# Altium footprint library smd_resistors.PcbLib: 11 footprints
Each footprint in its own frame and in the unit in brackets; x right, y up, seen from the top. Pads: shape width x height; smd on the part's side, far side on the other; paste and mask are expansions set on the pad; w line width, h text height; cw(c..) or ccw(c..) is an arc to the next point about the centre after c.
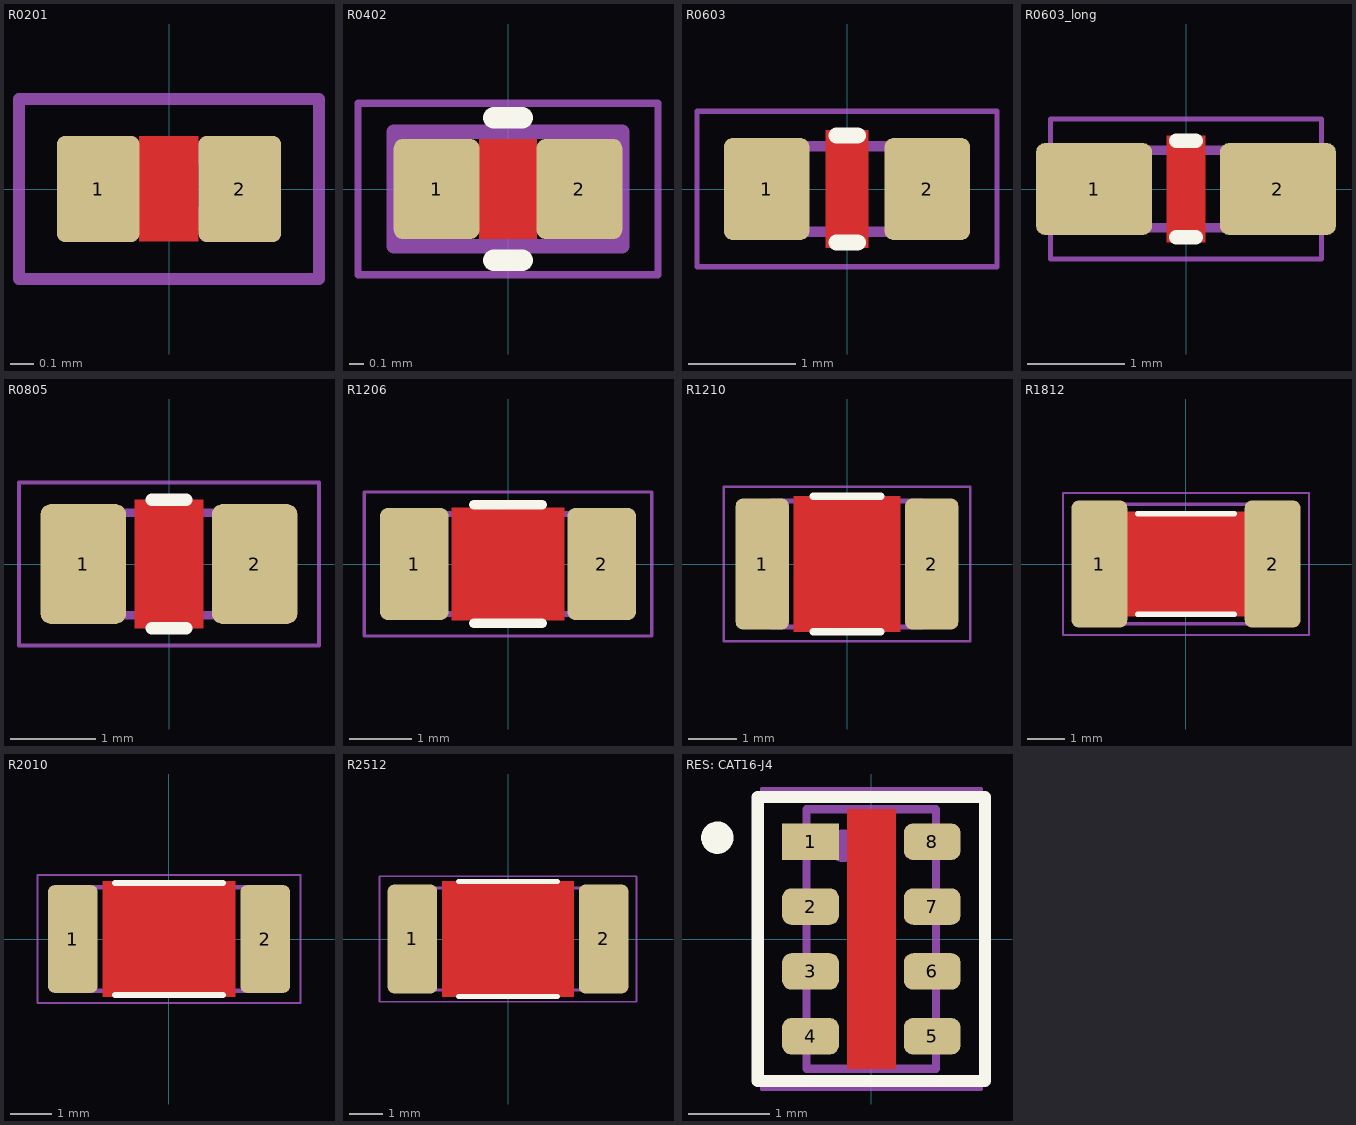
[diagram p0: the footprints below, top view; thin cyan lines are the x and y axes]

## R0201 [mm]
pads (2):
  rrect20% 0.35x0.45 smd: 1(-0.3,0) 2(0.3,0)
Top Layer:
  pour cut-out: 0.125,-0.221 0.125,0.223 -0.127,0.223 -0.127,-0.221
Top Assembly:
  lines w0.1: -0.306,-0.127 0.299,-0.127 0.299,0.154 -0.306,0.154 -0.306,-0.127
  text ".Designator" at -4.998,-0.333 h1
Top Courtyard (Mech15):
  lines w0.05: -0.635,-0.381 -0.635,0.381 0.635,0.381 0.635,-0.381 -0.635,-0.381
3D body "User Library-User Library-RES0201.STEP": height 0.15, standoff 0, extent -0.3,-0.15 0.3,0.15

## R0402 [mm]
pads (2):
  rrect20% 0.6x0.7 smd: 1(-0.5,0) 2(0.5,0)
Top Layer:
  pour cut-out: 0.2,-0.35 0.2,0.35 -0.2,0.35 -0.2,-0.35
Top Overlay:
  lines w0.15: -0.1,-0.5 0.1,-0.5 ; -0.1,0.5 0.1,0.5
Top Assembly:
  lines w0.1: -0.8,-0.4 -0.8,0.4 0.8,0.4 0.8,-0.4 -0.8,-0.4
  text ".Designator" at -4.998,-0.333 h1
Top Courtyard (Mech15):
  lines w0.05: -1.05,-0.6 1.05,-0.6 1.05,0.6 -1.05,0.6 -1.05,-0.6
3D body "Resistor_0402_Text.step": height 0.37, standoff 0.01, extent -0.508,-0.254 0.508,0.254

## R0603 [mm]
pads (2):
  rrect20% 0.8x0.95 smd: 1(-0.75,0) 2(0.75,0)
Top Layer:
  pour cut-out: 0.2,-0.55 0.2,0.55 -0.2,0.55 -0.2,-0.55
Top Overlay:
  lines w0.15: -0.1,-0.5 0.1,-0.5 ; -0.1,0.5 0.1,0.5
Top Assembly:
  lines w0.1: -0.8,-0.4 -0.8,0.4 0.8,0.4 0.8,-0.4 -0.8,-0.4
  text ".Designator" at -4.998,-0.333 h1
Top Courtyard (Mech15):
  lines w0.05: -1.4,-0.725 -1.4,0.725 1.4,0.725 1.4,-0.725 -1.4,-0.725
3D body "chip_0603_r.STEP": height 0.44, standoff -0.02, extent -0.8,-0.4 0.8,0.4

## R0603_long [mm]
pads (2):
  rrect20% 1.2x0.95 smd: 1(-0.95,0) 2(0.95,0)
Top Layer:
  pour cut-out: 0.2,-0.55 0.2,0.55 -0.2,0.55 -0.2,-0.55
Top Overlay:
  lines w0.15: -0.1,-0.5 0.1,-0.5 ; -0.1,0.5 0.1,0.5
Top Assembly:
  lines w0.1: -0.8,-0.4 -0.8,0.4 0.8,0.4 0.8,-0.4 -0.8,-0.4
  text ".Designator" at -4.998,-0.333 h1
Top Courtyard (Mech15):
  lines w0.05: -1.4,-0.725 -1.4,0.725 1.4,0.725 1.4,-0.725 -1.4,-0.725
3D body "chip_0603_r.STEP": height 0.44, standoff -0.02, extent -0.8,-0.4 0.8,0.4

## R0805 [mm]
pads (2):
  rrect25% 1x1.4 smd: 1(-1,0) 2(1,0)
Top Layer:
  pour cut-out: 0.4,-0.75 0.4,0.75 -0.4,0.75 -0.4,-0.75
Top Overlay:
  lines w0.15: -0.2,-0.75 0.2,-0.75 ; -0.2,0.75 0.2,0.75
Top Assembly:
  lines w0.1: -1,-0.6 -1,0.6 1,0.6 1,-0.6 -1,-0.6
  text ".Designator" at -4.998,-0.333 h1
Top Courtyard (Mech15):
  lines w0.05: -1.75,-0.95 -1.75,0.95 1.75,0.95 1.75,-0.95 -1.75,-0.95
3D body "chip_0805_r.STEP": height 0.44, standoff -0.02, extent -1,-0.6 1,0.6

## R1206 [mm]
pads (2):
  rrect25% 1.1x1.8 smd: 1(-1.5,0) 2(1.5,0)
Top Layer:
  pour cut-out: 0.9,-0.9 0.9,0.9 -0.9,0.9 -0.9,-0.9
Top Overlay:
  lines w0.15: -0.55,-0.95 0.55,-0.95 ; -0.55,0.95 0.55,0.95
Top Assembly:
  lines w0.1: -1.65,-0.8 1.55,-0.8 1.55,0.8 -1.65,0.8 -1.65,-0.8
  text ".Designator" at -4.998,-0.333 h1
Top Courtyard (Mech15):
  lines w0.05: -2.3,-1.15 -2.3,1.15 2.3,1.15 2.3,-1.15 -2.3,-1.15
3D body "chip_1206_r.STEP": height 0.47, standoff -0.03, extent -1.65,-0.8 1.55,0.8

## R1210 [mm]
height 0.6
pads (2):
  rrect25% 1.1x2.7 smd: 1(-1.75,0) 2(1.75,0)
Top Layer:
  pour cut-out: -1.1,1.4 -1.1,-1.4 1.1,-1.4 1.1,1.4
Top Overlay:
  lines w0.15: -0.7,-1.4 0.7,-1.4 ; -0.7,1.4 0.7,1.4
Top Assembly:
  lines w0.1: -1.55,-1.3 -1.55,1.3 1.55,1.3 1.55,-1.3 -1.55,-1.3
  text ".Designator" at -4.998,-0.333 h1
Top Courtyard (Mech15):
  lines w0.05: -2.55,-1.6 2.55,-1.6 2.55,1.6 -2.55,1.6 -2.55,-1.6
3D body: height 0.6, standoff 0, extent -1.55,-1.3 1.55,1.3

## R1812 [mm]
height 0.65
pads (2):
  rrect25% 1.5x3.4 smd: 1(-2.325,0) 2(2.325,0)
Top Layer:
  pour cut-out: 1.6,-1.4 1.6,1.4 -1.6,1.4 -1.6,-1.4
Top Overlay:
  lines w0.15: -1.3,-1.35 1.3,-1.35 ; -1.3,1.35 1.3,1.35
Top Assembly:
  lines w0.1: -2.3,-1.6 -2.3,1.6 2.3,1.6 2.3,-1.6 -2.3,-1.6
  text ".Designator" at -4.998,-0.333 h1
Top Courtyard (Mech15):
  lines w0.05: -3.302,-1.905 -3.302,1.905 3.302,1.905 3.302,-1.905 -3.302,-1.905
3D body: height 0.55, standoff 0, extent -2.3,-1.6 2.3,1.6

## R2010 [mm]
height 0.65
pads (2):
  rrect25% 1.2x2.6 smd: 1(-2.325,0) 2(2.325,0)
Top Layer:
  pour cut-out: 1.6,-1.4 1.6,1.4 -1.6,1.4 -1.6,-1.4
Top Overlay:
  lines w0.15: -1.3,-1.35 1.3,-1.35 ; -1.3,1.35 1.3,1.35
Top Assembly:
  lines w0.1: -2.5,-1.25 2.5,-1.25 2.5,1.25 -2.5,1.25 -2.5,-1.25
  text ".Designator" at -4.998,-0.333 h1
Top Courtyard (Mech15):
  lines w0.05: -3.175,-1.55 -3.175,1.55 3.175,1.55 3.175,-1.55 -3.175,-1.55
3D body: height 0.65, standoff 0, extent -2.5,-1.25 2.5,1.25

## R2512 [mm]
pads (2):
  rrect25% 1.5x3.3 smd: 1(-2.9,0) 2(2.9,0)
Top Layer:
  pour cut-out: 2,-1.75 2,1.75 -2,1.75 -2,-1.75
Top Overlay:
  lines w0.15: -1.5,-1.75 1.5,-1.75 ; -1.5,1.75 1.5,1.75
Top Assembly:
  lines w0.1: -3.17,-1.55 -3.17,1.55 3.18,1.55 3.18,-1.55 -3.17,-1.55
  text ".Designator" at -4.998,-0.333 h1
Top Courtyard (Mech15):
  lines w0.05: -3.9,-1.9 -3.9,1.9 3.9,1.9 3.9,-1.9 -3.9,-1.9
3D body "User Library-R_2512.step": height 0.6, standoff 0, extent -3.2,-1.6 3.2,1.6

## RES: CAT16-J4 [mm]
pads (8):
  rect 0.7x0.45 smd: 1(-0.75,1.2)
  rrect50% 0.7x0.45 smd: 2(-0.75,0.4) 3(-0.75,-0.4) 4(-0.75,-1.2) 5(0.75,-1.2) 6(0.75,-0.4) 7(0.75,0.4) 8(0.75,1.2)
Top Layer:
  pour cut-out: -0.3,1.6 -0.3,-1.6 0.3,-1.6 0.3,1.6
Top Overlay:
  circle w0.2: c-1.9,1.25 r0.1
  lines w0.15: -1.4,-1.75 1.4,-1.75 1.4,1.75 -1.4,1.75 -1.4,-1.75
Top Assembly:
  circle w0.2: c-0.35,1.15 r0.1
  lines w0.1: -0.8,-1.6 0.8,-1.6 0.8,1.6 -0.8,1.6 -0.8,-1.6
  text ".Designator" at -0.483,-4.998 h1
Top Courtyard (Mech15):
  lines w0.05: -1.35,-1.85 1.35,-1.85 1.35,1.85 -1.35,1.85 -1.35,-1.85
3D body "User Library-Array-1206-4Way-Var1.STEP": height 0.5, standoff 0, extent -0.8,-1.6 0.8,1.6